# EAGLE library part TDA7297 (library MyComponents)
15+15W DUAL BRIDGE AMPLIFIER
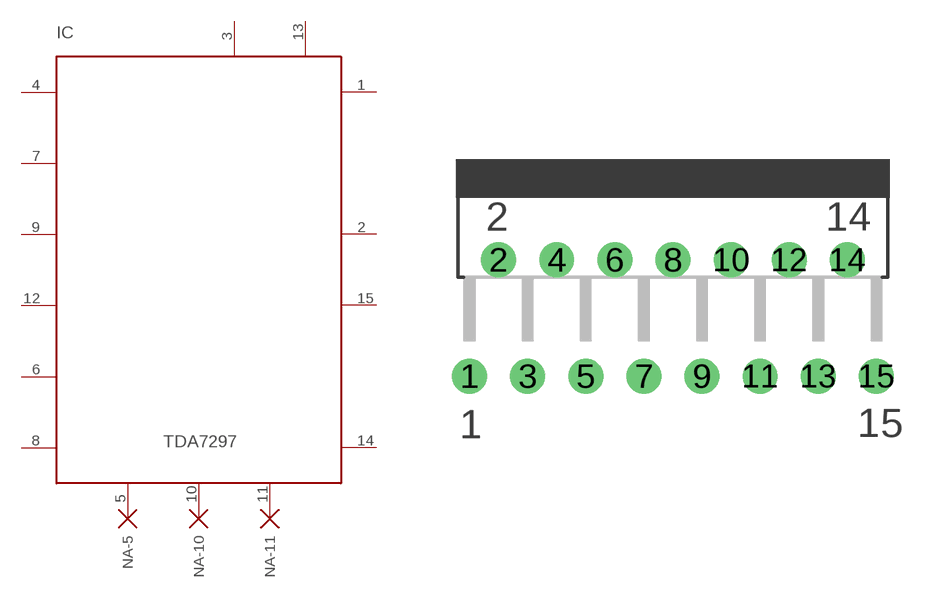
[diagram p20: symbol with the pads of MULTIWATT-15; footprint MULTIWATT-15]

Designator prefix IC

## TDA7297 (MOUSER: 511-TDA7297)  [MULTIWATT-15]
1  OUT1+
2  OUT1-
3  VCC1
4  IN1
5  NA-5
6  MUTE
7  ST-BY
8  PW-GND
9  S-GND
10  NA-10
11  NA-11
12  IN2
13  VCC2
14  OUT2-
15  OUT2+

## Footprint MULTIWATT-15 (pad centres in mm)
Multiwatt 15 lead
drill 1.016: 1 -8.89,-7.62; 2 -7.62,-2.54; 3 -6.35,-7.62; 4 -5.08,-2.54; 5 -3.81,-7.62; 6 -2.54,-2.54; 7 -1.27,-7.62; 8 0,-2.54; 9 1.27,-7.62; 10 2.54,-2.54; 11 3.81,-7.62; 12 5.08,-2.54; 13 6.35,-7.62; 14 7.62,-2.54; 15 8.89,-7.62